# Altium schematic symbol library E2S_E2S_031_V1.SchLib: 1 symbol
Pins are listed as number, name and electrical type; pins without a type are passive.

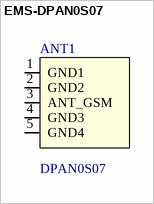
[diagram p0: symbol EMS-DPAN0S07]

## EMS-DPAN0S07
designator ANT1, comment value DPAN0S07  (hidden comment: Combined GSM 4-Band and W-CDMA Antenna)
Manufacturer: CIROCOMM; Internal Part Number: EMS-DPAN0S07; Vendor Part Number: Custom; Component Height (mm): 5mm; 3rd Auxiliary Field: RoHS Compliant; 1st Auxiliary Field: 4.5 max; 2nd Auxiliary Field: 50 Ω; Temp Co: -40℃~85℃; Vendor Name: CIRO; Part Type: Combined GSM Quad Band and W-CDMA2100 LTE 700/2600; Manufacturer Part Number: DPAN0S07; 4th Auxiliary Field: *
footprint EMS-ANT_DPAN0S07
pins: 1 GND1, 2 GND2, 3 ANT_GSM, 4 GND3, 5 GND4